# EAGLE library part ISM43340-M4G-L44-XXX (library ModuleCarrier-ISM4334X-M4G-L44)
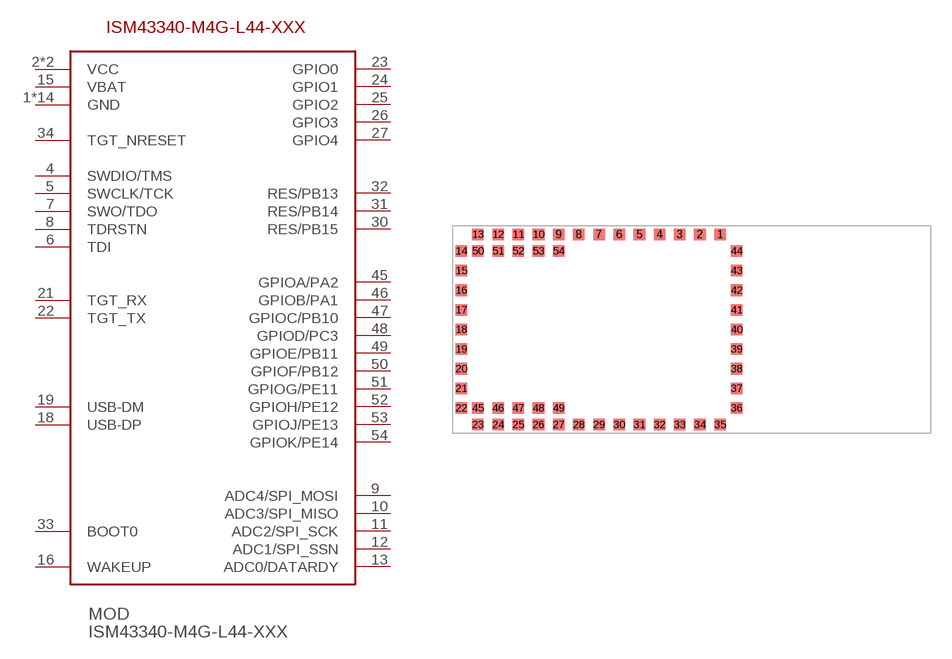
[diagram p4: symbol with the pads of ISM43340-M4G-L44-XXX; footprint ISM43340-M4G-L44-XXX]

Designator prefix MOD

## ISM43340-M4G-L44-XXX  [ISM43340-M4G-L44-XXX]
1  GND
2  VCC
3  GND
4  SWDIO/TMS
5  SWCLK/TCK
6  TDI
7  SWO/TDO
8  TDRSTN
9  ADC4/SPI_MOSI
10  ADC3/SPI_MISO
11  ADC2/SPI_SCK
12  ADC1/SPI_SSN
13  ADC0/DATARDY
14  VCC
15  VBAT
16  WAKEUP
17  GND
18  USB-DP
19  USB-DM
20  GND
21  TGT_RX
22  TGT_TX
23  GPIO0
24  GPIO1
25  GPIO2
26  GPIO3
27  GPIO4
30  RES/PB15
31  RES/PB14
32  RES/PB13
33  BOOT0
34  TGT_NRESET
35  GND
36  GND
37  GND
38  GND
39  GND
40  GND
41  GND
42  GND
43  GND
44  GND
45  GPIOA/PA2
46  GPIOB/PA1
47  GPIOC/PB10
48  GPIOD/PC3
49  GPIOE/PB11
50  GPIOF/PB12
51  GPIOG/PE11
52  GPIOH/PE12
53  GPIOJ/PE13
54  GPIOK/PE14

## Footprint ISM43340-M4G-L44-XXX (pad centres in mm)
smd 0.84 x 0.84: 1 8.76,6.88; 2 7.3,6.88; 3 5.84,6.88; 4 4.38,6.88; 5 2.92,6.88; 6 1.46,6.88; 7 0,6.88; 8 -1.46,6.88; 9 -2.92,6.88; 10 -4.38,6.88; 11 -5.84,6.88; 12 -7.3,6.88; 13 -8.76,6.88; 14 -9.96,5.68; 15 -9.96,4.26; 16 -9.96,2.84; 17 -9.96,1.42; 18 -9.96,0; 19 -9.96,-1.42; 20 -9.96,-2.84; 21 -9.96,-4.26; 22 -9.96,-5.68; 23 -8.76,-6.88; 24 -7.3,-6.88; 25 -5.84,-6.88; 26 -4.38,-6.88; 27 -2.92,-6.88; 28 -1.46,-6.88; 29 0,-6.88; 30 1.46,-6.88; 31 2.92,-6.88; 32 4.38,-6.88; 33 5.84,-6.88; 34 7.3,-6.88; 35 8.76,-6.88; 36 9.96,-5.68; 37 9.96,-4.26; 38 9.96,-2.84; 39 9.96,-1.42; 40 9.96,0; 41 9.96,1.42; 42 9.96,2.84; 43 9.96,4.26; 44 9.96,5.68; 45 -8.76,-5.68; 46 -7.3,-5.68; 47 -5.84,-5.68; 48 -4.38,-5.68; 49 -2.92,-5.68; 50 -8.76,5.68; 51 -7.3,5.68; 52 -5.84,5.68; 53 -4.38,5.68; 54 -2.92,5.68